# Altium footprint library PCBLib.PcbLib: 26 footprints (part 2 of 2)
Each footprint in its own frame and in the unit in brackets; x right, y up, seen from the top. Pads: shape width x height; smd on the part's side, far side on the other; paste and mask are expansions set on the pad; w line width, h text height; cw(c..) or ccw(c..) is an arc to the next point about the centre after c.
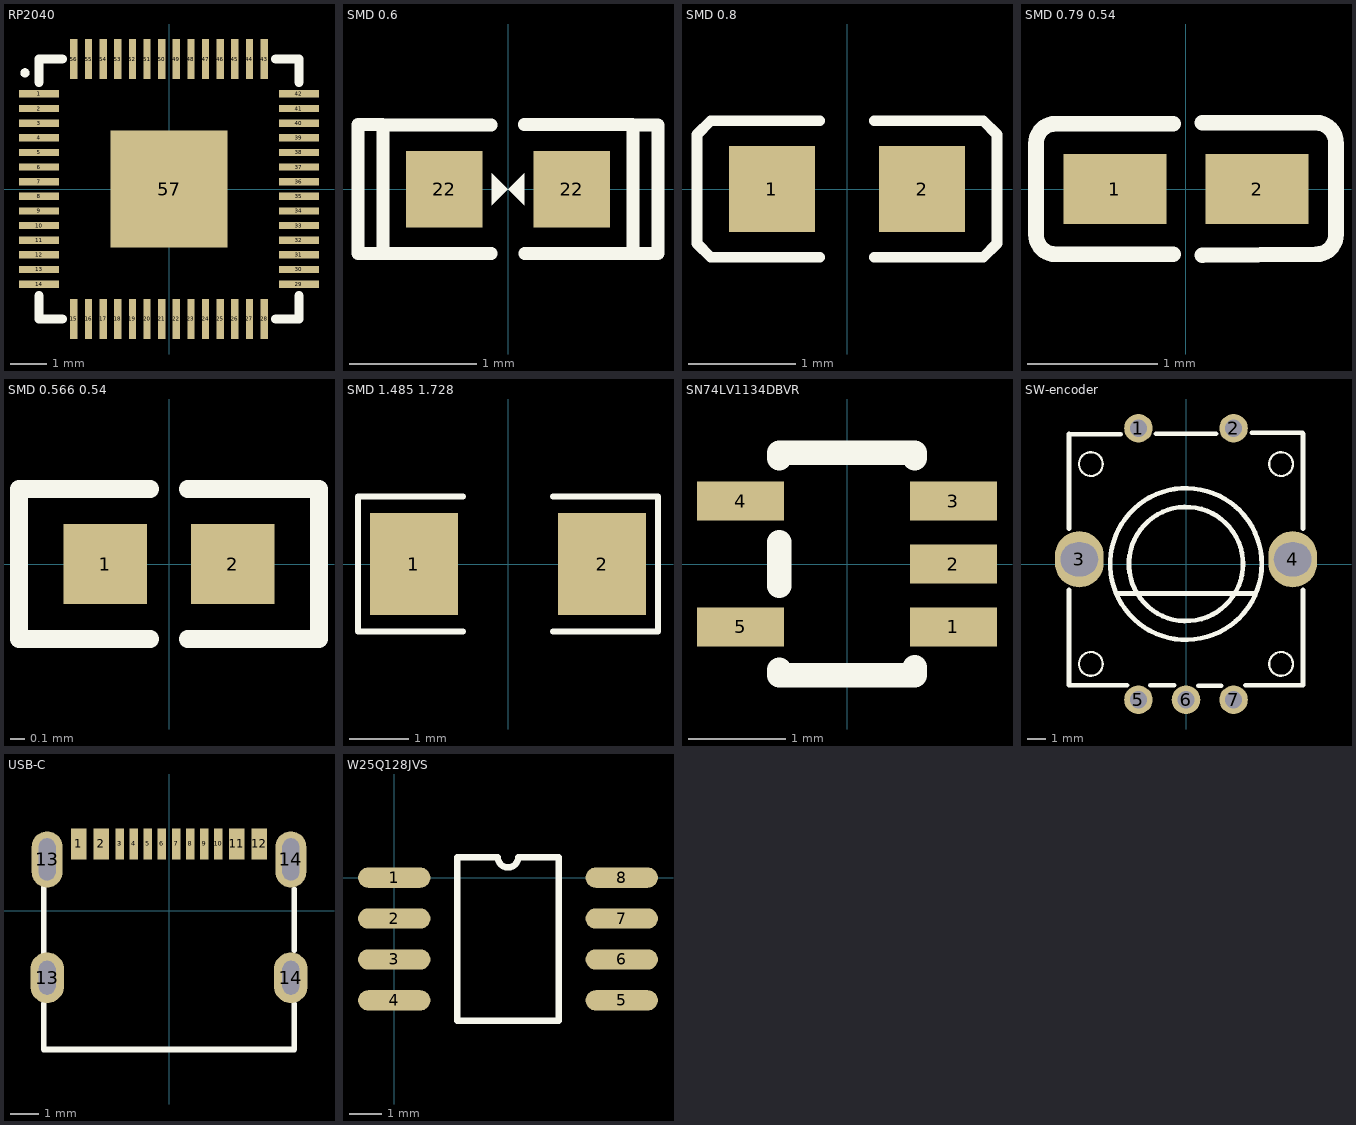
[diagram p1: the footprints below, top view; thin cyan lines are the x and y axes]

## RP2040 [mm]
pads (58):
  rect 1.1x0.2 smd: 1(-3.55,2.6) 2(-3.55,2.2) 3(-3.55,1.8) 4(-3.55,1.4) 5(-3.55,1) 6(-3.55,0.6) 7(-3.55,0.2) 8(-3.55,-0.2) 9(-3.55,-0.6) 10(-3.55,-1) 11(-3.55,-1.4) 12(-3.55,-1.8) 13(-3.55,-2.2) 14(-3.55,-2.6) 29(3.55,-2.6) 30(3.55,-2.2) 31(3.55,-1.8) 32(3.55,-1.4) 33(3.55,-1) 34(3.55,-0.6) 35(3.55,-0.2) 36(3.55,0.2) 37(3.55,0.6) 38(3.55,1) 39(3.55,1.4) 40(3.55,1.8) 41(3.55,2.2) 42(3.55,2.6)
  rect 0.2x1.1 smd: 15(-2.6,-3.55) 16(-2.2,-3.55) 17(-1.8,-3.55) 18(-1.4,-3.55) 19(-1,-3.55) 20(-0.6,-3.55) 21(-0.2,-3.55) 22(0.2,-3.55) 23(0.6,-3.55) 24(1,-3.55) 25(1.4,-3.55) 26(1.8,-3.55) 27(2.2,-3.55) 28(2.6,-3.55) 43(2.6,3.55) 44(2.2,3.55) 45(1.8,3.55) 46(1.4,3.55) 47(1,3.55) 48(0.6,3.55) 49(0.2,3.55) 50(-0.2,3.55) 51(-0.6,3.55) 52(-1,3.55) 53(-1.4,3.55) 54(-1.8,3.55) 55(-2.2,3.55) 56(-2.6,3.55)
  rect 3.2x3.2 smd: 57(0,0)
  round 0.254 on Top Overlay: ""(-3.937,3.175)
Top Overlay:
  lines w0.254: -3.556,-2.921 -3.556,-3.556 -2.921,-3.556 ; -3.556,2.921 -3.556,3.556 -2.921,3.556 ; 2.921,-3.556 3.556,-3.556 3.556,-2.921 ; 2.921,3.556 3.556,3.556 3.556,2.921
3D body "step_temp.STEP": height 0.9, standoff 0, extent -3.5,-3.5 3.5,3.5

## SMD 0.6 [mm]
pads (2):
  rect 0.6x0.6 smd: 22(-0.5,0) 22(0.5,0)
Top Overlay:
  region: -0.127,0.127 -0.127,-0.127 0.127,0.127 0.127,-0.127
  lines w0.1: -0.131,-0.504 -0.981,-0.504 ; -0.131,0.504 -0.981,0.504 ; 0.127,0.508 0.977,0.508 0.981,0.504 ; 0.131,-0.504 0.981,-0.504 ; -0.981,-0.504 -0.981,0.504 ; -0.981,-0.504 -1.178,-0.504 -1.178,0.508 -0.985,0.508 -0.981,0.504 ; 0.981,-0.504 0.981,0.504 ; 0.981,-0.504 1.178,-0.504 1.178,0.504 0.981,0.504

## SMD 0.8 [mm]
pads (2):
  rect 0.8x0.8 smd: 1(-0.7,0) 2(0.7,0)
Top Overlay:
  lines w0.1: -0.254,-0.635 -1.27,-0.635 -1.397,-0.508 -1.397,-0.381 -1.397,0.381 -1.397,0.508 -1.27,0.635 -0.254,0.635 ; 0.254,-0.635 1.27,-0.635 1.397,-0.508 1.397,0.508 1.27,0.635 0.254,0.635

## SMD 0.79 0.54 [mm]
pads (2):
  rect 0.79x0.54 smd: 1(-0.545,0) 2(0.545,0)
Top Overlay:
  lines w0.12: -0.1,-0.5 -1,-0.5 cw(c-1,-0.35) -1.15,-0.35 -1.15,0.35 cw(c-1,0.35) -1,0.5 -0.1,0.5 ; 0.127,-0.508 1,-0.5 ccw(c1,-0.35) 1.15,-0.35 1.15,0.35 ccw(c0.996,0.354) 1,0.508 0.127,0.508

## SMD 0.566 0.54 [mm]
pads (2):
  rect 0.566x0.54 smd: 1(-0.433,0) 2(0.433,0)
Top Overlay:
  lines w0.12: -0.762,0.508 -1.016,0.508 ; -0.127,-0.508 -1.016,-0.508 -1.016,0.508 ; -0.127,0.508 -1.016,0.508 ; 0.127,-0.508 1.016,-0.508 1.016,0.508 0.127,0.508

## SMD 1.485 1.728 [mm]
pads (2):
  rect 1.485x1.728 smd: 1(-1.593,0) 2(1.593,0)
Top Overlay:
  lines w0.1: -0.762,-1.143 -2.54,-1.143 -2.54,-0.508 -2.54,1.143 -1.905,1.143 -0.762,1.143 ; 0.762,-1.143 2.54,-1.143 2.54,1.143 0.762,1.143

## SN74LV1134DBVR [mm]
pads (5):
  rect 0.9x0.4 smd: 1(1.1,-0.65) 2(1.1,0) 3(1.1,0.65) 4(-1.1,0.65) 5(-1.1,-0.65)
Top Overlay:
  lines w0.25: -0.7,-1.15 0.7,-1.15 ; -0.7,-1.143 -0.7,-1.092 ; -0.7,-0.229 -0.7,0.229 ; -0.7,1.092 -0.7,1.143 ; -0.7,1.15 0.7,1.15 ; 0.7,-1.143 0.7,-1.067 ; 0.7,1.092 0.7,1.143

## SW-encoder [mm]
pads (7):
  round 1.524 hole 0.914: 1(-2.54,7.25) 2(2.54,7.25) 5(-2.54,-7.25) 6(0,-7.25) 7(2.54,-7.25)
  oval 2.6x3 hole 1.8 slot 2 at 0 deg: 3(-5.7,0.25) 4(5.7,0.25)
Top Overlay:
  circle w0.25: c0,0 r4.05
  circle w0.25: c0,0 r3.048
  circle w0.12: c-5.08,-5.338 r0.635
  circle w0.12: c5.08,5.338 r0.635
  circle w0.12: c-5.08,5.338 r0.635
  circle w0.12: c5.08,-5.338 r0.635
  lines w0.25: -6.251,-6.477 -6.251,-1.378 ; -6.251,1.878 -6.251,6.951 ; -6.248,-6.477 -3.15,-6.477 ; -6.248,6.934 -3.48,6.934 ; -3.683,-1.575 3.683,-1.575 ; -1.905,-6.477 -0.635,-6.477 ; -1.6,6.96 1.6,6.96 ; 0.66,-6.502 1.88,-6.502 ; 3.175,-6.477 6.251,-6.477 6.251,-1.378 ; 3.505,7.01 6.223,7.01 ; 6.251,1.878 6.251,6.951

## USB-C [mm]
pads (17):
  rect 0.55x1.1 smd: 1(-3.2,2.375) 2(-2.4,2.375) 11(2.4,2.375) 12(3.2,2.375)
  rect 0.3x1.1 smd: 3(-1.75,2.375) 3(-1.75,2.375) 4(-1.25,2.375) 5(-0.75,2.375) 6(-0.25,2.375) 7(0.25,2.375) 8(0.75,2.375) 9(1.25,2.375) 10(1.75,2.375)
  oval 1.2x1.8 hole 1.2 slot 0.6 at 0 deg: 13(-4.325,-2.375) 14(4.325,-2.375)
  oval 1.1x2 hole 1.5 slot 0.6 at 0 deg: 13(-4.325,1.825) 14(4.325,1.825)
Top Overlay:
  lines w0.2: -4.45,-4.925 4.45,-4.925 4.45,-3.307 ; -4.445,-4.92 -4.445,-3.302 ; -4.445,-1.524 -4.445,0.889 ; 4.445,-1.397 4.445,0.762

## W25Q128JVS [mm]
pads (8):
  oval 2.25x0.63 smd: 1(0,0) 2(0,-1.27) 3(0,-2.54) 4(0,-3.81) 5(7.06,-3.81) 6(7.06,-2.54) 7(7.06,-1.27) 8(7.06,0)
Top Overlay:
  lines w0.2: 1.96,-4.445 5.1,-4.445 5.1,0.635 3.848,0.635 cw(c3.53,0.635) 3.213,0.635 1.96,0.635 1.96,-4.445